# Altium footprint library loralib.PcbLib: 5 footprints
Each footprint in its own frame and in the unit in brackets; x right, y up, seen from the top. Pads: shape width x height; smd on the part's side, far side on the other; paste and mask are expansions set on the pad; w line width, h text height; cw(c..) or ccw(c..) is an arc to the next point about the centre after c.
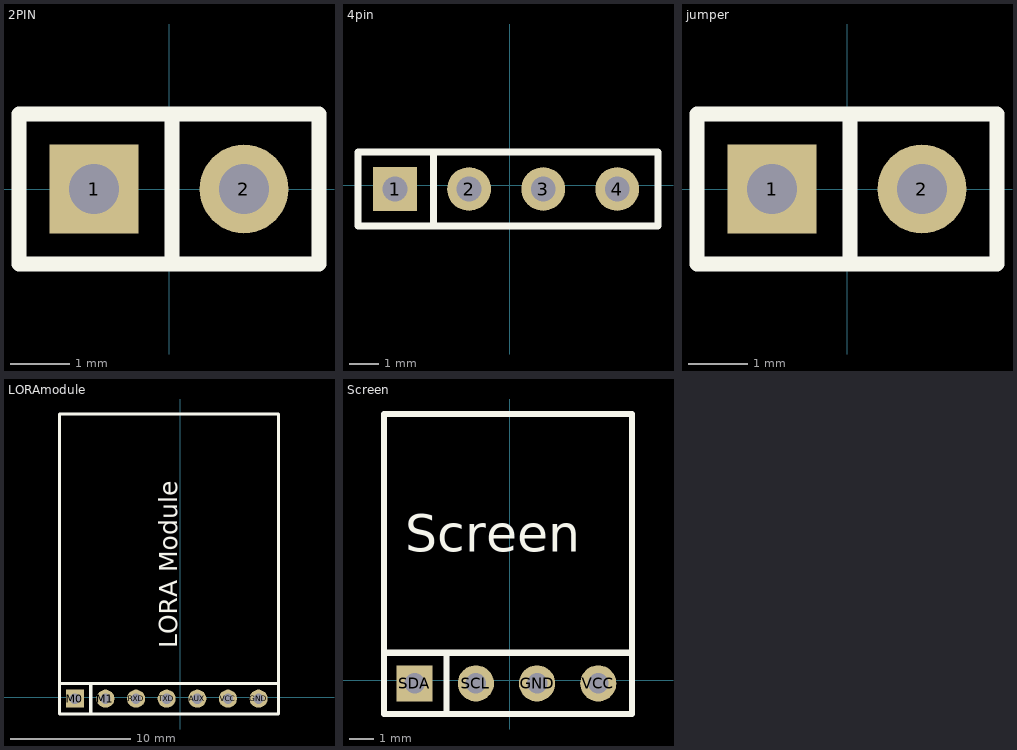
[diagram p0: the footprints below, top view; thin cyan lines are the x and y axes]

## 2PIN [mm]
pads (2):
  rect 1.5x1.5 hole 0.85: 1(-1.27,0)
  round 1.5 hole 0.85: 2(1.27,0)
Top Overlay:
  lines w0.254: 0.05,-1.27 0.05,1.27 ; -2.54,-1.27 2.54,-1.27 2.54,1.27 -2.54,1.27 -2.54,-1.27

## 4pin [mm]
pads (4):
  rect 1.5x1.5 hole 0.85: 1(-3.937,-0.127)
  round 1.5 hole 0.85: 2(-1.397,-0.127) 3(1.143,-0.127) 4(3.683,-0.127)
Top Overlay:
  lines w0.254: -2.617,-1.397 -2.617,1.143 ; -5.207,-1.397 5.08,-1.397 5.08,1.143 -5.207,1.143 -5.207,-1.397

## jumper [mm]
pads (2):
  rect 1.5x1.5 hole 0.85: 1(-1.27,0)
  round 1.5 hole 0.85: 2(1.27,0)
Top Overlay:
  lines w0.254: 0.05,-1.27 0.05,1.27 ; -2.54,-1.27 2.54,-1.27 2.54,1.27 -2.54,1.27 -2.54,-1.27

## LORAmodule [mm]
pads (7):
  round 1.5 hole 0.85: AUX(1.397,-0.127) GND(6.477,-0.127) M1(-6.223,-0.127) RXD(-3.683,-0.127) TXD(-1.143,-0.127) VCC(3.937,-0.127)
  rect 1.5x1.5 hole 0.85: M0(-8.763,-0.127)
Top Overlay:
  lines w0.254: -7.443,-1.397 -7.443,1.143 ; -10.033,1.143 8.128,1.143 ; -10.033,1.143 -10.033,23.495 8.128,23.495 8.128,1.143 ; -10.033,1.143 -10.033,-1.397 8.128,-1.397 8.128,1.143 ; -10.033,1.143 8.128,1.143
  text "LORA Module" at -0.254,4.064 h1.52

## Screen [mm]
pads (4):
  round 1.5 hole 0.85: GND(1.143,-0.127) SCL(-1.397,-0.127) VCC(3.683,-0.127)
  rect 1.5x1.5 hole 0.85: SDA(-3.937,-0.127)
Top Overlay:
  lines w0.254: -2.617,-1.397 -2.617,1.143 ; -5.207,1.143 5.08,1.143 ; -5.207,1.143 -5.207,11.049 5.08,11.049 5.08,1.143 ; -5.207,1.143 -5.207,-1.397 5.08,-1.397 5.08,1.143 ; -5.207,1.143 5.08,1.143
  text "Screen" at -4.318,5.334 h1.52